# Altium footprint library Transistor_Array_Pcb.PcbLib: 9 footprints
Each footprint in its own frame and in the unit in brackets; x right, y up, seen from the top. Pads: shape width x height; smd on the part's side, far side on the other; paste and mask are expansions set on the pad; w line width, h text height; cw(c..) or ccw(c..) is an arc to the next point about the centre after c.
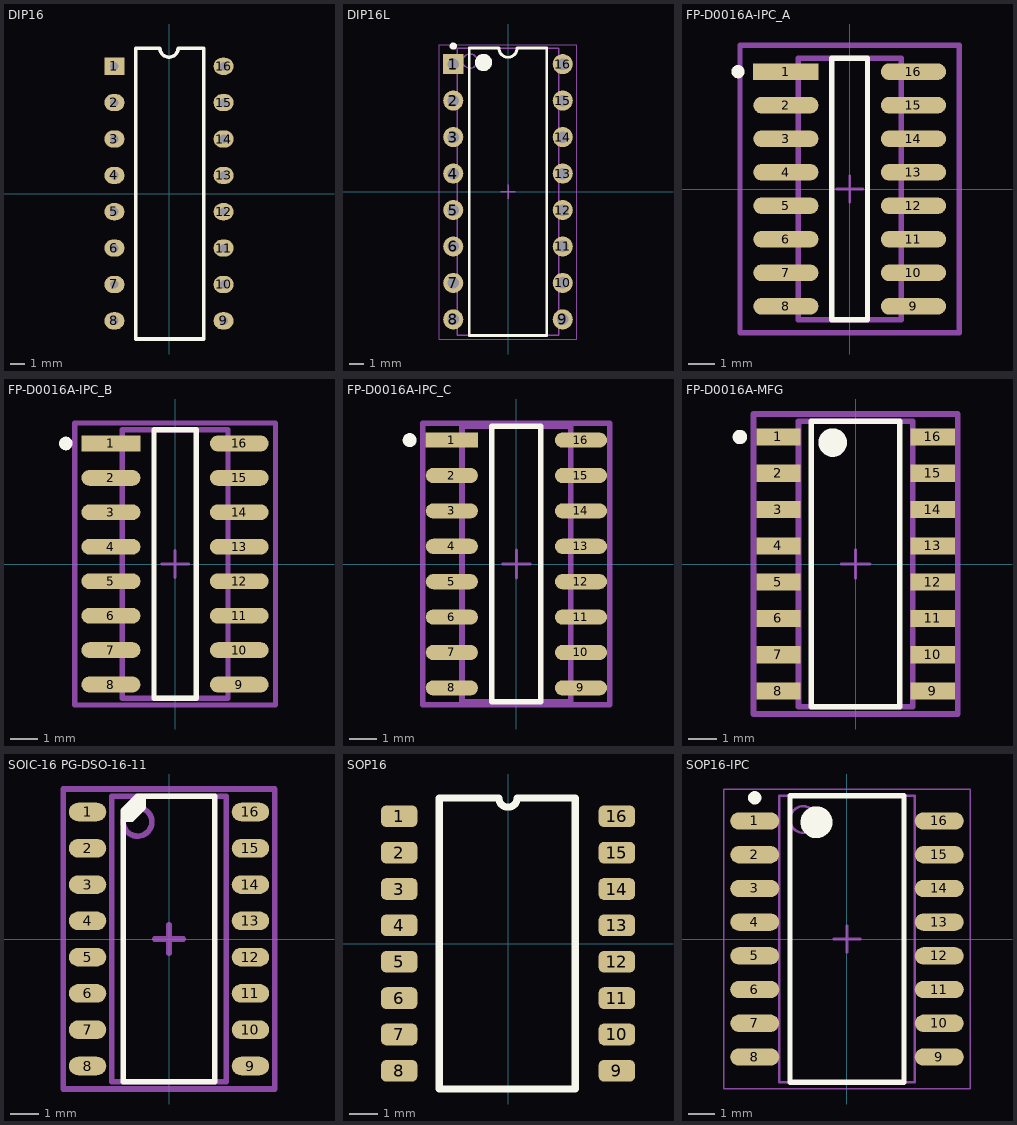
[diagram p0: the footprints below, top view; thin cyan lines are the x and y axes]

## DIP16 [mm]
pads (16):
  rect 1.4x1.2 hole 0.6: 1(-3.81,8.89)
  oval 1.4x1.2 hole 0.6: 2(-3.81,6.35) 3(-3.81,3.81) 4(-3.81,1.27) 5(-3.81,-1.27) 6(-3.81,-3.81) 7(-3.81,-6.35) 8(-3.81,-8.89) 9(3.81,-8.89) 10(3.81,-6.35) 11(3.81,-3.81) 12(3.81,-1.27) 13(3.81,1.27) 14(3.81,3.81) 15(3.81,6.35) 16(3.81,8.89)
Top Overlay:
  lines w0.25: -2.31,-10.16 2.44,-10.16 2.44,10.16 0.635,10.16 cw(c0,10.16) -0.635,10.16 -2.31,10.16 -2.31,-10.16
3D body "DIP16.step": height 3.82, standoff -2.93, extent -3.9,-10.795 3.974,10.795

## DIP16L [mm] "DIP, 16-Leads, Body 20x7.1mm, Pitch 2.54mm"
height 5.1
pads (16):
  rect 1.4x1.4 hole 0.8: 1(-3.81,8.89)
  round 1.4 hole 0.8: 2(-3.81,6.35) 3(-3.81,3.81) 4(-3.81,1.27) 5(-3.81,-1.27) 6(-3.81,-3.81) 7(-3.81,-6.35) 8(-3.81,-8.89) 9(3.81,-8.89) 10(3.81,-6.35) 11(3.81,-3.81) 12(3.81,-1.27) 13(3.81,1.27) 14(3.81,3.81) 15(3.81,6.35) 16(3.81,8.89)
Top Overlay:
  circle w0.25: c-3.81,10.14 r0.125
  circle w0.6: c-1.7,9 r0.3
  lines w0.2: -2.7,-10 -2.7,10 -0.635,10 ccw(c0,10) 0.635,10 2.7,10 2.7,-10 -2.7,-10
Mechanical 13:
  circle w0.1: c-2.65,9.1 r0.5
  lines w0.1: -3.55,-10 -3.55,10 3.55,10 3.55,-10 -3.55,-10
Mechanical 15:
  lines w0.05: -4.8,-10.25 -4.8,10.25 4.8,10.25 4.8,-10.25 -4.8,-10.25
  lines w0.1: -0.5,0 0.5,0 ; 0,-0.5 0,0.5
3D body "DIP16.step": height 3.82, standoff -2.93, extent -4,-10.795 3.874,10.795

## FP-D0016A-IPC_A [mm]
pads (16):
  rect 2.474x0.622 smd paste+0 mask+0: 1(-2.416,4.445)
  rrect100% 2.474x0.622 smd paste+0 mask+0: 2(-2.416,3.175) 3(-2.416,1.905) 4(-2.416,0.635) 5(-2.416,-0.635) 6(-2.416,-1.905) 7(-2.416,-3.175) 8(-2.416,-4.445) 9(2.416,-4.445) 10(2.416,-3.175) 11(2.416,-1.905) 12(2.416,-0.635) 13(2.416,0.635) 14(2.416,1.905) 15(2.416,3.175) 16(2.416,4.445)
Top Overlay:
  circle w0.25: c-4.228,4.445 r0.125
  lines w0.2: -0.679,-4.95 -0.679,4.95 0.679,4.95 0.679,-4.95 -0.679,-4.95
Mechanical 5:
  lines w0.2: -4.153,-5.45 -4.153,5.45 4.153,5.45 4.153,-5.45 -4.153,-5.45
  text ".Designator" at 0,0.188 h1
Mechanical 13:
  lines w0.2: -1.95,-4.95 -1.95,4.95 1.95,4.95 1.95,-4.95 -1.95,-4.95
Mechanical 15:
  lines w0.2: -4.153,-5.45 -4.153,5.45 4.153,5.45 4.153,-5.45 -4.153,-5.45
Mechanical 16:
  lines w0.1: -0.5,0 0.5,0 ; 0,-0.5 0,0.5
3D body "IC_Texas_Instruments_ULN2003LVDR_eec.STEP": height 0.25, standoff 0, extent -4.153,-5.45 4.153,5.45

## FP-D0016A-IPC_B [mm]
pads (16):
  rect 2.174x0.582 smd paste+0 mask+0: 1(-2.366,4.445)
  rrect100% 2.174x0.582 smd paste+0 mask+0: 2(-2.366,3.175) 3(-2.366,1.905) 4(-2.366,0.635) 5(-2.366,-0.635) 6(-2.366,-1.905) 7(-2.366,-3.175) 8(-2.366,-4.445) 9(2.366,-4.445) 10(2.366,-3.175) 11(2.366,-1.905) 12(2.366,-0.635) 13(2.366,0.635) 14(2.366,1.905) 15(2.366,3.175) 16(2.366,4.445)
Top Overlay:
  circle w0.25: c-4.028,4.445 r0.125
  lines w0.2: -0.779,-4.95 0.779,-4.95 0.779,4.95 -0.779,4.95 -0.779,-4.95
Mechanical 5:
  lines w0.2: -3.703,-5.2 3.703,-5.2 3.703,5.2 -3.703,5.2 -3.703,-5.2
  text ".Designator" at 0,0.188 h1
Mechanical 13:
  lines w0.2: -1.95,-4.95 1.95,-4.95 1.95,4.95 -1.95,4.95 -1.95,-4.95
Mechanical 15:
  lines w0.2: -3.703,-5.2 3.703,-5.2 3.703,5.2 -3.703,5.2 -3.703,-5.2
Mechanical 16:
  lines w0.1: -0.5,0 0.5,0 ; 0,-0.5 0,0.5
3D body "IC_Texas_Instruments_ULN2003LVDR_eec.STEP": height 0.25, standoff 0, extent -3.703,-5.2 3.703,5.2

## FP-D0016A-IPC_C [mm]
pads (16):
  rect 1.874x0.542 smd paste+0 mask+0: 1(-2.316,4.445)
  rrect100% 1.874x0.542 smd paste+0 mask+0: 2(-2.316,3.175) 3(-2.316,1.905) 4(-2.316,0.635) 5(-2.316,-0.635) 6(-2.316,-1.905) 7(-2.316,-3.175) 8(-2.316,-4.445) 9(2.316,-4.445) 10(2.316,-3.175) 11(2.316,-1.905) 12(2.316,-0.635) 13(2.316,0.635) 14(2.316,1.905) 15(2.316,3.175) 16(2.316,4.445)
Top Overlay:
  circle w0.25: c-3.828,4.445 r0.125
  lines w0.2: -0.879,-4.95 -0.879,4.95 0.879,4.95 0.879,-4.95 -0.879,-4.95
Mechanical 5:
  lines w0.2: -3.353,-5.05 -3.353,5.05 3.353,5.05 3.353,-5.05 -3.353,-5.05
  text ".Designator" at 0,0.188 h1
Mechanical 13:
  lines w0.2: -1.95,-4.95 -1.95,4.95 1.95,4.95 1.95,-4.95 -1.95,-4.95
Mechanical 15:
  lines w0.2: -3.353,-5.05 -3.353,5.05 3.353,5.05 3.353,-5.05 -3.353,-5.05
Mechanical 16:
  lines w0.1: -0.5,0 0.5,0 ; 0,-0.5 0,0.5
3D body "IC_Texas_Instruments_ULN2003LVDR_eec.STEP": height 0.25, standoff 0, extent -3.353,-5.05 3.353,5.05

## FP-D0016A-MFG [mm]
pads (16):
  rect 1.55x0.6 smd paste-1000 mask+0: 1(-2.7,4.445) 2(-2.7,3.175) 3(-2.7,1.905) 4(-2.7,0.635) 5(-2.7,-0.635) 6(-2.7,-1.905) 7(-2.7,-3.175) 8(-2.7,-4.445) 9(2.7,-4.445) 10(2.7,-3.175) 11(2.7,-1.905) 12(2.7,-0.635) 13(2.7,0.635) 14(2.7,1.905) 15(2.7,3.175) 16(2.7,4.445)
Top Overlay:
  circle w0.25: c-4.05,4.445 r0.125
  circle w0.5: c-0.8,4.25 r0.25
  lines w0.2: -1.55,-5 1.55,-5 ; -1.55,-5 1.55,-5 ; -1.55,-5 -1.55,5 1.55,5 1.55,-5
Top Paste:
  rectangle: 1.95,-4.72 3.45,-4.17
  rectangle: 1.95,-3.45 3.45,-2.9
  rectangle: 1.95,-2.18 3.45,-1.63
  rectangle: 1.95,-0.91 3.45,-0.36
  rectangle: 1.95,0.36 3.45,0.91
  rectangle: 1.95,1.63 3.45,2.18
  rectangle: 1.95,2.9 3.45,3.45
  rectangle: 1.95,4.17 3.45,4.72
  rectangle: -3.45,-4.72 -1.95,-4.17
  rectangle: -3.45,-3.45 -1.95,-2.9
  rectangle: -3.45,-2.18 -1.95,-1.63
  rectangle: -3.45,-0.91 -1.95,-0.36
  rectangle: -3.45,0.36 -1.95,0.91
  rectangle: -3.45,1.63 -1.95,2.18
  rectangle: -3.45,2.9 -1.95,3.45
  rectangle: -3.45,4.17 -1.95,4.72
Mechanical 5:
  lines w0.2: -3.575,-5.25 3.575,-5.25 3.575,5.25 -3.575,5.25 -3.575,-5.25
  text ".Designator" at 0,0.188 h1
Mechanical 13:
  lines w0.2: -2,-5 2,-5 2,5 -2,5 -2,-5
Mechanical 15:
  lines w0.2: -3.575,-5.25 3.575,-5.25 3.575,5.25 -3.575,5.25 -3.575,-5.25
Mechanical 16:
  lines w0.1: -0.5,0 0.5,0 ; 0,-0.5 0,0.5
3D body "IC_Texas_Instruments_ULN2003LVDR_eec.STEP": height 0.25, standoff 0, extent -3.575,-5.25 3.575,5.25

## SOIC-16 PG-DSO-16-11 [mm] "SOIC, 16-Leads, Body 9.90x3.90mm, Pitch 1.27mm, IPC Medium Density"
height 1.75
pads (16):
  oval 1.31x0.65 smd: 1(-2.85,4.445) 2(-2.85,3.175) 3(-2.85,1.905) 4(-2.85,0.635) 5(-2.85,-0.635) 6(-2.85,-1.905) 7(-2.85,-3.175) 8(-2.85,-4.445) 9(2.85,-4.445) 10(2.85,-3.175) 11(2.85,-1.905) 12(2.85,-0.635) 13(2.85,0.635) 14(2.85,1.905) 15(2.85,3.175) 16(2.85,4.445)
Top Overlay:
  region: -1.6,4.2 -1.3,4.2 -0.9,4.6 -0.9,5 -1.096,5 -1.6,4.496
  lines w0.2: -1.6,4.2 -1.3,4.2 -0.9,4.6 -0.9,5 ; -1.6,-5 1.6,-5 1.6,5 -1.096,5 -1.6,4.496 -1.6,-5
Mechanical 13:
  circle w0.2: c-1.1,4.1 r0.5
  lines w0.2: -2,-5 2,-5 2,5 -2,5 -2,-5
Mechanical 15:
  lines w0.2: -0.5,0 0.5,0 ; 0,-0.5 0,0.5 ; -3.7,-5.25 3.7,-5.25 3.7,5.25 -3.7,5.25 -3.7,-5.25
3D body "INFINEON SOIC-16 PG-DSO-16-11.step": height 1.75, standoff 0, extent -3,-5 3,5

## SOP16 [mm]
pads (16):
  rrect50% 1.27x0.76 smd: 1(-3.8,4.445) 2(-3.8,3.175) 3(-3.8,1.905) 4(-3.8,0.635) 5(-3.8,-0.635) 6(-3.8,-1.905) 7(-3.8,-3.175) 8(-3.8,-4.445) 9(3.8,-4.445) 10(3.8,-3.175) 11(3.8,-1.905) 12(3.8,-0.635) 13(3.8,0.635) 14(3.8,1.905) 15(3.8,3.175) 16(3.8,4.445)
Top Overlay:
  lines w0.25: -2.4,-5.08 -2.4,5.08 -0.318,5.08 ccw(c0,5.08) 0.318,5.08 2.35,5.08 2.35,-5.08 -2.4,-5.08
3D body "SOP16.STEP": height 1.6, standoff 0, extent -3.9,-5.4 3.9,5.4

## SOP16-IPC [mm] "SOP, 16-Leads, Body 10,45x5,30mm, Pitch 1,27mm, IPC Medium Density"
height 1.9
pads (16):
  oval 1.85x0.65 smd: 1(-3.475,4.445) 2(-3.475,3.175) 3(-3.475,1.905) 4(-3.475,0.635) 5(-3.475,-0.635) 6(-3.475,-1.905) 7(-3.475,-3.175) 8(-3.475,-4.445) 9(3.475,-4.445) 10(3.475,-3.175) 11(3.475,-1.905) 12(3.475,-0.635) 13(3.475,0.635) 14(3.475,1.905) 15(3.475,3.175) 16(3.475,4.445)
Top Overlay:
  circle w0.25: c-3.475,5.32 r0.125
  circle w0.6: c-1.15,4.4 r0.3
  lines w0.2: -2.15,-5.4 -2.15,5.4 2.15,5.4 2.15,-5.4 -2.15,-5.4
Mechanical 13:
  circle w0.1: c-1.65,4.5 r0.5
  lines w0.1: -2.55,-5.4 -2.55,5.4 2.55,5.4 2.55,-5.4 -2.55,-5.4
Mechanical 15:
  lines w0.05: -4.65,-5.65 -4.65,5.65 4.65,5.65 4.65,-5.65 -4.65,-5.65
  lines w0.1: -0.5,0 0.5,0 ; 0,-0.5 0,0.5
3D body "SOP16.STEP": height 1.6, standoff 0, extent -3.9,-5.4 3.9,5.4